# Altium footprint library E2S_E2S_028_V1.PcbLib: 1 footprints
Each footprint in its own frame and in the unit in brackets; x right, y up, seen from the top. Pads: shape width x height; smd on the part's side, far side on the other; paste and mask are expansions set on the pad; w line width, h text height; cw(c..) or ccw(c..) is an arc to the next point about the centre after c.
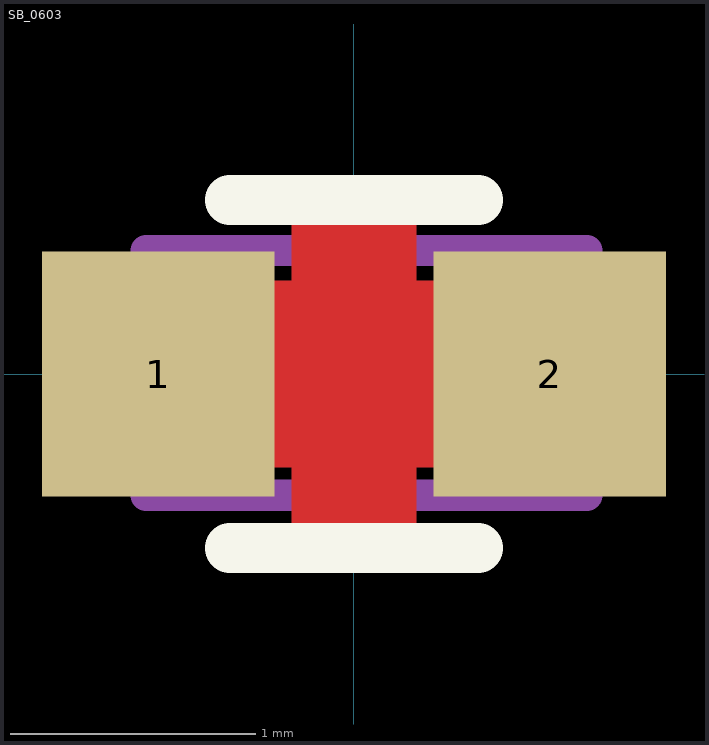
[diagram p0: the footprint, top view; thin cyan lines are the x and y axes]

## SB_0603 [mm]
pads (2):
  rect 0.95x1 smd mask+0.076: 1(-0.8,0) 2(0.8,0)
Top Layer:
  pour cut-out: 0.254,-0.61 -0.254,-0.61 -0.254,0.61 0.254,0.61
  lines w0.762: -0.8,0 0.8,0
Top Overlay:
  lines w0.203: -0.508,-0.711 0.508,-0.711 ; -0.508,0.711 0.508,0.711
Mechanical 1:
  text ".Designator" at 0,0 h1.02
Mechanical 15:
  lines w0.127: -0.849,-0.495 0.951,-0.495 0.951,0.505 -0.849,0.505 -0.849,-0.495
3D body "0603.STEP": height 0.32, standoff 0, extent -0.849,-0.495 0.951,0.505